# Altium footprint library PMICs.PcbLib: 2 footprints
Each footprint in its own frame and in the unit in brackets; x right, y up, seen from the top. Pads: shape width x height; smd on the part's side, far side on the other; paste and mask are expansions set on the pad; w line width, h text height; cw(c..) or ccw(c..) is an arc to the next point about the centre after c.
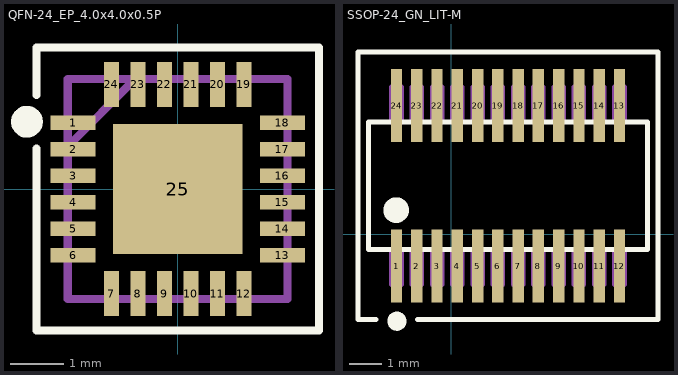
[diagram p0: the footprints below, top view; thin cyan lines are the x and y axes]

## QFN-24_EP_4.0x4.0x0.5P [mil]
pads (25):
  rect 33.46x11.02 smd paste+0: 1(-77.76,49.21) 2(-77.76,29.53) 3(-77.76,9.84) 4(-77.76,-9.84) 5(-77.76,-29.53) 6(-77.76,-49.21) 13(77.76,-49.21) 14(77.76,-29.53) 15(77.76,-9.84) 16(77.76,9.84) 17(77.76,29.53) 18(77.76,49.21)
  rect 11.02x33.46 smd paste+0: 7(-49.22,-77.76) 8(-29.54,-77.76) 9(-9.85,-77.76) 10(9.85,-77.76) 11(29.54,-77.76) 12(49.22,-77.76) 19(49.22,77.76) 20(29.54,77.76) 21(9.85,77.76) 22(-9.85,77.76) 23(-29.54,77.76) 24(-49.22,77.76)
  rect 96.46x96.46 smd paste+0 mask+0: 25(0,0)
Top Overlay:
  circle w11.81: c-112,50 r5.91
  lines w6: -105,30 -105,-105 105,-105 105,105 -105,105 -105,70
Top Paste:
  drawing of 40 lines, arcs and shapes, not listed
Top Solder:
  region: 0,0 10,0 10,10 0,10
  region: 0,0 10,0 10,10 0,10
  region: 0,0 10,0 10,10 0,10
  region: 0,0 10,0 10,10 0,10
  region: 0,0 10,0 10,10 0,10
  region: 0,0 10,0 10,10 0,10
  region: 0,0 10,0 10,10 0,10
  region: 0,0 10,0 10,10 0,10
  region: 0,0 10,0 10,10 0,10
  region: 0,0 10,0 10,10 0,10
  region: 0,0 10,0 10,10 0,10
  region: 0,0 10,0 10,10 0,10
  region: 0,0 10,0 10,10 0,10
  region: 0,0 10,0 10,10 0,10
  region: 0,0 10,0 10,10 0,10
  region: 0,0 10,0 10,10 0,10
  region: 0,0 10,0 10,10 0,10
  region: 0,0 10,0 10,10 0,10
  region: 0,0 10,0 10,10 0,10
  region: 0,0 10,0 10,10 0,10
  region: 0,0 10,0 10,10 0,10
  region: 0,0 10,0 10,10 0,10
  region: 0,0 10,0 10,10 0,10
  region: 0,0 10,0 10,10 0,10
  region: 0,0 10,0 10,10 0,10
  region: 0,0 10,0 10,10 0,10
  region: 0,0 10,0 10,10 0,10
  region: 0,0 10,0 10,10 0,10
  region: 0,0 10,0 10,10 0,10
  region: 0,0 10,0 10,10 0,10
  region: 0,0 10,0 10,10 0,10
  region: 0,0 10,0 10,10 0,10
Assembly Top:
  lines w6: -81.69,31.69 -31.69,81.69 ; -81.69,-81.69 81.69,-81.69 81.69,81.69 -81.69,81.69 -81.69,-81.69 ; -81.69,-55.12 -81.69,-43.31 -81.69,-55.12 ; -81.69,-35.43 -81.69,-23.62 -81.69,-35.43 ; -81.69,-15.75 -81.69,-3.94 -81.69,-15.75 ; -81.69,3.94 -81.69,15.75 -81.69,3.94 ; -81.69,23.62 -81.69,35.43 -81.69,23.62 ; -81.69,43.31 -81.69,55.12 -81.69,43.31 ; -55.12,-81.69 -43.31,-81.69 -55.12,-81.69 ; -55.12,81.69 -43.31,81.69 -55.12,81.69 ; -35.43,-81.69 -23.62,-81.69 -35.43,-81.69 ; -35.43,81.69 -23.62,81.69 -35.43,81.69 ; -15.75,-81.69 -3.94,-81.69 -15.75,-81.69 ; -15.75,81.69 -3.94,81.69 -15.75,81.69 ; 3.94,-81.69 15.75,-81.69 3.94,-81.69 ; 3.94,81.69 15.75,81.69 3.94,81.69 ; 23.62,-81.69 35.43,-81.69 23.62,-81.69 ; 23.62,81.69 35.43,81.69 23.62,81.69 ; 43.31,-81.69 55.12,-81.69 43.31,-81.69 ; 43.31,81.69 55.12,81.69 43.31,81.69 ; 81.69,-55.12 81.69,-43.31 81.69,-55.12 ; 81.69,-35.43 81.69,-23.62 81.69,-35.43 ; 81.69,-15.75 81.69,-3.94 81.69,-15.75 ; 81.69,3.94 81.69,15.75 81.69,3.94 ; 81.69,23.62 81.69,35.43 81.69,23.62 ; 81.69,43.31 81.69,55.12 81.69,43.31
Mechanical 22:
  region: 0,0 10,0 10,10 0,10
  region: 0,0 10,0 10,10 0,10
3D body: height 39.49, standoff 0, extent -83.7,-83.7 83.7,83.7

## SSOP-24_GN_LIT-M [mil]
pads (24):
  rect 14x90 smd: 1(-67.5,-39) 2(-42.5,-39) 3(-17.5,-39) 4(7.5,-39) 5(32.5,-39) 6(57.5,-39) 7(82.5,-39) 8(107.5,-39) 9(132.5,-39) 10(157.5,-39) 11(182.5,-39) 12(207.5,-39) 13(207.5,159) 14(182.5,159) 15(157.5,159) 16(132.5,159) 17(107.5,159) 18(82.5,159) 19(57.5,159) 20(32.5,159) 21(7.5,159) 22(-17.5,159) 23(-42.5,159) 24(-67.5,159)
Top Overlay:
  circle w19.68: c-68,30 r5.91
  circle w11.81: c-67,-107 r5.91
  lines w6: -93,-105 -115,-105 -115,225 255,225 255,-105 -42,-105 ; -102,-18.5 242,-18.5 242,138.5 -102,138.5 -102,-18.5
Assembly Top:
  lines w6: -73.5,-62 -61.5,-62 -61.5,-18.5 -73.5,-18.5 -73.5,-62 ; -73.5,138.5 -73.5,182 -61.5,182 -61.5,138.5 -73.5,138.5 ; -48.5,-62 -36.5,-62 -36.5,-18.5 -48.5,-18.5 -48.5,-62 ; -48.5,138.5 -48.5,182 -36.5,182 -36.5,138.5 -48.5,138.5 ; -23.5,-62 -11.5,-62 -11.5,-18.5 -23.5,-18.5 -23.5,-62 ; -23.5,138.5 -23.5,182 -11.5,182 -11.5,138.5 -23.5,138.5 ; 1.5,-62 13.5,-62 13.5,-18.5 1.5,-18.5 1.5,-62 ; 1.5,138.5 1.5,182 13.5,182 13.5,138.5 1.5,138.5 ; 26.5,-62 38.5,-62 38.5,-18.5 26.5,-18.5 26.5,-62 ; 26.5,138.5 26.5,182 38.5,182 38.5,138.5 26.5,138.5 ; 51.5,-62 63.5,-62 63.5,-18.5 51.5,-18.5 51.5,-62 ; 51.5,138.5 51.5,182 63.5,182 63.5,138.5 51.5,138.5 ; 76.5,-62 88.5,-62 88.5,-18.5 76.5,-18.5 76.5,-62 ; 76.5,138.5 76.5,182 88.5,182 88.5,138.5 76.5,138.5 ; 101.5,-62 113.5,-62 113.5,-18.5 101.5,-18.5 101.5,-62 ; 101.5,138.5 101.5,182 113.5,182 113.5,138.5 101.5,138.5 ; 126.5,-62 138.5,-62 138.5,-18.5 126.5,-18.5 126.5,-62 ; 126.5,138.5 126.5,182 138.5,182 138.5,138.5 126.5,138.5 ; 151.5,-62 163.5,-62 163.5,-18.5 151.5,-18.5 151.5,-62 ; 151.5,138.5 151.5,182 163.5,182 163.5,138.5 151.5,138.5 ; 176.5,-62 188.5,-62 188.5,-18.5 176.5,-18.5 176.5,-62 ; 176.5,138.5 176.5,182 188.5,182 188.5,138.5 176.5,138.5 ; 201.5,-62 213.5,-62 213.5,-18.5 201.5,-18.5 201.5,-62 ; 201.5,138.5 201.5,182 213.5,182 213.5,138.5 201.5,138.5
3D body: height 68.9, standoff 0, extent -100.26,-62.19 240.25,174.32